# EAGLE library part DIP-6X (library #PaJa_prepinace)
DIP Prepinac - 6x
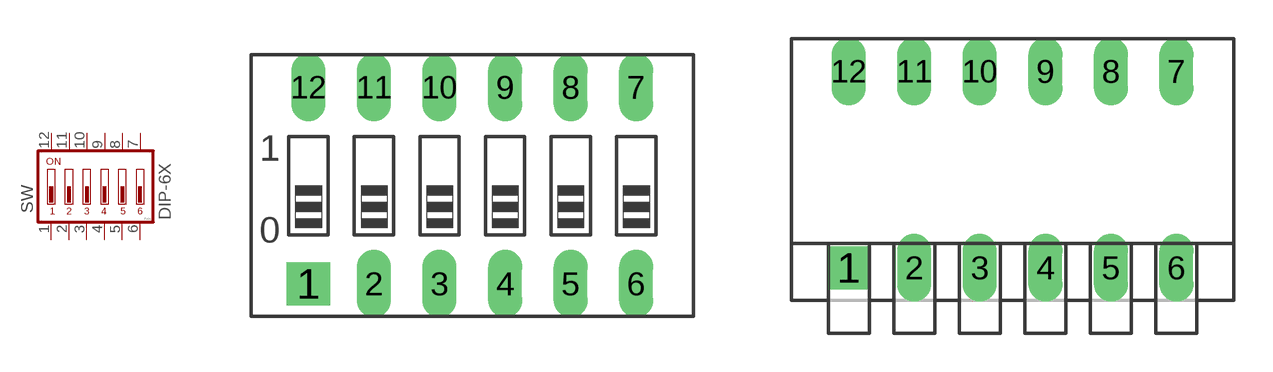
[diagram p5: symbol with the pads of DIP-6X; footprints DIP-6X, DP-06]

Designator prefix SW

## DIP-6X_DIP  [DIP-6X]
1  1  pas
2  2  pas
3  3  pas
4  4  pas
5  5  pas
6  6  pas
7  7  pas
8  8  pas
9  9  pas
10  10  pas
11  11  pas
12  12  pas

## DIP-6X_DIP_PIANO  [DP-06]
Pads as for DIP-6X

## Footprint DIP-6X (pad centres in mm)
DIP prepinac - 6x
drill 0.813 pad 1.676 square: 1 -6.35,-3.81
drill 0.813 pad 1.27 long: 2 -3.81,-3.81; 3 -1.27,-3.81; 4 1.27,-3.81; 5 3.81,-3.81; 6 6.35,-3.81; 7 6.35,3.81; 8 3.81,3.81; 9 1.27,3.81; 10 -1.27,3.81; 11 -3.81,3.81; 12 -6.35,3.81

## Footprint DP-06 (pad centres in mm)
DIP prepinac - typ piano - 6x
drill 0.813 pad 1.676 square: 1 -6.35,-3.81
drill 0.813 pad 1.27 long: 2 -3.81,-3.81; 3 -1.27,-3.81; 4 1.27,-3.81; 5 3.81,-3.81; 6 6.35,-3.81; 7 6.35,3.81; 8 3.81,3.81; 9 1.27,3.81; 10 -1.27,3.81; 11 -3.81,3.81; 12 -6.35,3.81